# Altium footprint library CC3100MODR11MAMOBR.PcbLib: 1 footprints
Each footprint in its own frame and in the unit in brackets; x right, y up, seen from the top. Pads: shape width x height; smd on the part's side, far side on the other; paste and mask are expansions set on the pad; w line width, h text height; cw(c..) or ccw(c..) is an arc to the next point about the centre after c.
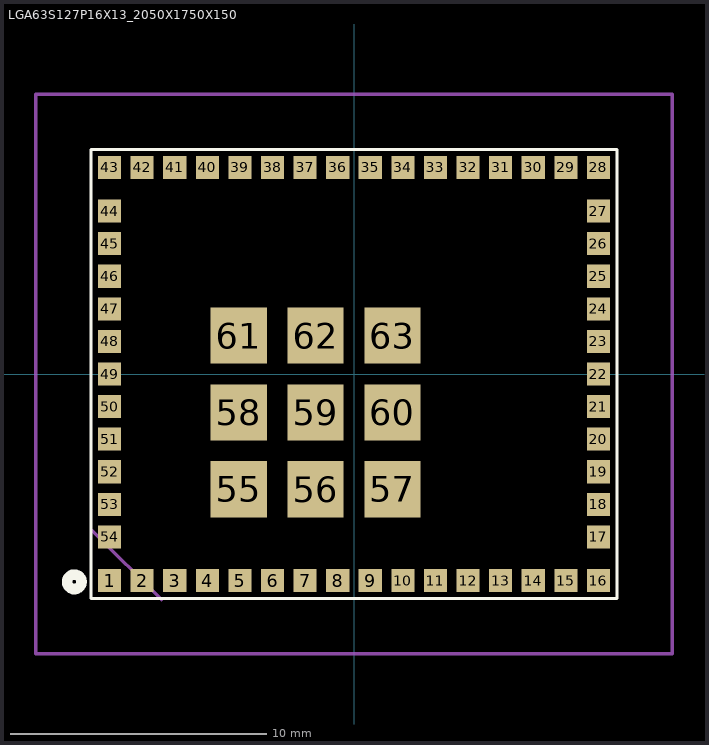
[diagram p0: the footprint, top view; thin cyan lines are the x and y axes]

## LGA63S127P16X13_2050X1750X150 [mm]
pads (63):
  rect 0.9x0.9 smd paste-25.4 mask-25.4: 1(-9.525,-8.05) 2(-8.255,-8.05) 3(-6.985,-8.05) 4(-5.715,-8.05) 5(-4.445,-8.05) 6(-3.175,-8.05) 7(-1.905,-8.05) 8(-0.635,-8.05) 9(0.635,-8.05) 10(1.905,-8.05) 11(3.175,-8.05) 12(4.445,-8.05) 13(5.715,-8.05) 14(6.985,-8.05) 15(8.255,-8.05) 16(9.525,-8.05) 17(9.525,-6.35) 18(9.525,-5.08) 19(9.525,-3.81) 20(9.525,-2.54) 21(9.525,-1.27) 22(9.525,0) 23(9.525,1.27) 24(9.525,2.54) 25(9.525,3.81) 26(9.525,5.08) 27(9.525,6.35) 28(9.525,8.05) 29(8.255,8.05) 30(6.985,8.05) 31(5.715,8.05) 32(4.445,8.05) 33(3.175,8.05) 34(1.905,8.05) 35(0.635,8.05) 36(-0.635,8.05) 37(-1.905,8.05) 38(-3.175,8.05) 39(-4.445,8.05) 40(-5.715,8.05) 41(-6.985,8.05) 42(-8.255,8.05) 43(-9.525,8.05) 44(-9.525,6.35) 45(-9.525,5.08) 46(-9.525,3.81) 47(-9.525,2.54) 48(-9.525,1.27) 49(-9.525,0) 50(-9.525,-1.27) 51(-9.525,-2.54) 52(-9.525,-3.81) 53(-9.525,-5.08) 54(-9.525,-6.35)
  rect 2.2x2.2 smd paste-25.4 mask-25.4: 55(-4.5,-4.5) 56(-1.5,-4.5) 57(1.5,-4.5) 58(-4.5,-1.5) 59(-1.5,-1.5) 60(1.5,-1.5) 61(-4.5,1.5) 62(-1.5,1.5) 63(1.5,1.5)
Top Overlay:
  circle w0.406: c-10.9,-8.1 r0.283
  lines w0.127: -10.25,-8.75 -10.25,8.75 10.25,8.75 10.25,-8.75 -10.25,-8.75
Top Paste:
  drawing of 63 lines, arcs and shapes, not listed
Top Solder:
  drawing of 63 lines, arcs and shapes, not listed
Mechanical 1:
  lines w0.127: -10.2,-6.1 -7.5,-8.8 ; -12.4,-10.9 -12.4,10.9 12.4,10.9 12.4,-10.9 -12.4,-10.9
3D body "cc3100mod_.STEP": height 2.31, standoff 0.01, extent -10.21,-8.71 10.29,8.79